# Altium schematic symbol library Micron.SchLib: 1 symbol
Pins are listed as number, name and electrical type; pins without a type are passive.

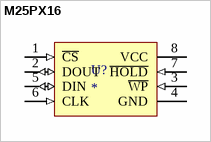
[diagram p0: symbol M25PX16]

## M25PX16
designator U?
16-Mbit, dual I/O, 4-Kbyte subsector erase,  serial Flash memory with 75 MHz SPI bus interface
footprint SOP127P600X175-8N (SOP, 8-Leads, Body 5,0x4,0mm (max), Pitch 1,27mm, IPC Medium Density)
pins: 1 ~{CS} (in), 2 DOUT (io), 3 ~{WP} (in), 4 GND (power), 5 DIN (io), 6 CLK (in), 7 ~{HOLD} (in), 8 VCC (power)